# Altium schematic symbol library Components.SchLib: 9 symbols
Pins are listed as number, name and electrical type; pins without a type are passive.

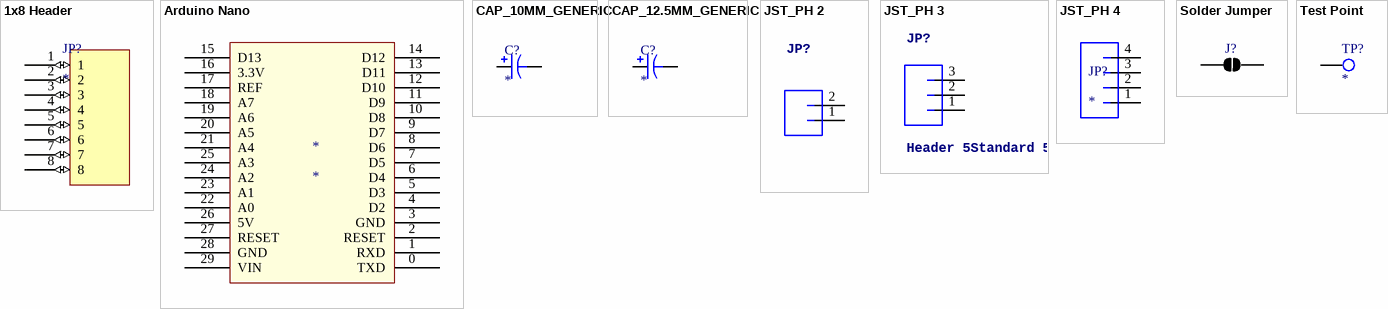
[diagram p0: symbols 1x8 Header to Test Point]

## 1x8 Header
designator JP?
Supplier 1: Arrow; Supplier 2: Arrow; Supplier 3: Digi-Key
footprint Header 8x1 8.5mm (Stackable 8 pin header)
pins: 1 (io), 2 (io), 3 (io), 4 (io), 5 (io), 6 (io), 7 (io), 8 (io)

## Arduino Nano
designator *
footprint Arduino Nano
pins: 0 TXD, 1 RXD, 2 RESET, 3 GND, 4 D2, 5 D3, 6 D4, 7 D5, 8 D6, 9 D7, 10 D8, 11 D9, 12 D10, 13 D11, 14 D12, 15 D13, 16 3.3V, 17 REF, 18 A7, 19 A6, 20 A5, 21 A4, 22 A0, 23 A1, 24 A2, 25 A3, 26 5V, 27 RESET, 28 GND, 29 VIN

## CAP_10MM_GENERIC
designator C?
Generic electrolytic capacitor w/ 10mm diameter and 5mm pitch
footprint CAP_10mm
pins: 0, 1

## CAP_12.5MM_GENERIC
designator C?
Generic electrolytic capacitor w/ 12.5mm diameter and 5mm pitch
footprint CAP_12.5mm
pins: 0, 1

## JST_PH 2
designator JP?
footprint JST-2-PTH-VERT
pins: 1, 2

## JST_PH 3
designator JP?, comment Header 5Standard 5-pin 0.1" header. Use with straight break away headers (SKU : PRT-00116), right angle break away headers (PRT-00553), swiss pins (PRT-00743), machine pins (PRT-00117), and female headers (PRT-00115). Molex polarized connector foot print use with SKU : PRT-08230 with associated crimp pins and housings.
footprint JST-3-PTH-VERT
pins: 1, 2, 3

## JST_PH 4
designator JP?
footprint JST-4-PTH-VERT
footprint JST-4-SMD-RIGHT-ANGLE
footprint JST-4-PTH-RIGHT-ANGLE
pins: 1, 2, 3, 4

## Solder Jumper
designator J?
footprint SOLDER JUMPER
pins: 1, 2

## Test Point
designator TP?
footprint TEST POINT
pins: 1